# EAGLE library part V36SE12004NRFA (library ruark2)
Isolated Module DC DC Converter 1 Output 12V 4.2A 18V - 75V Input
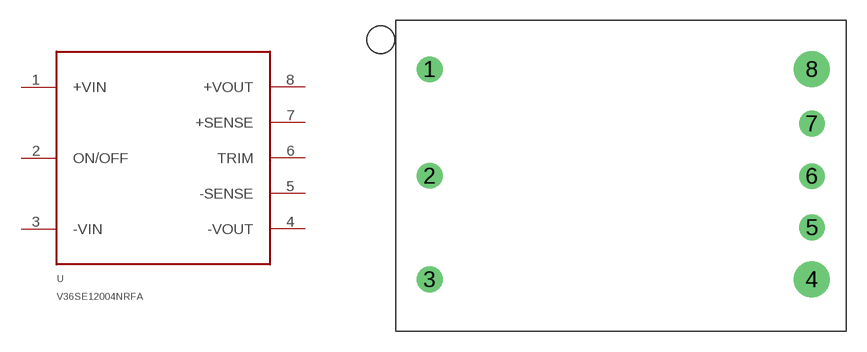
[diagram p99: symbol with the pads of V36SE12004NRFA; footprint V36SE12004NRFA]

Designator prefix U

## V36SE12004NRFA (PARTNO: 941-1007-ND)  [V36SE12004NRFA]
1  +VIN
2  ON/OFF
3  -VIN
4  -VOUT
5  -SENSE
6  TRIM
7  +SENSE
8  +VOUT

## Footprint V36SE12004NRFA (pad centres in mm)
drill 1.25: 1 -13.4,7.82; 2 -13.4,0; 3 -13.4,-7.6; 5 14.6,-3.79; 6 14.6,-0.02; 7 14.6,3.83
drill 1.75: 4 14.6,-7.6; 8 14.6,7.82